# EAGLE library part BQ27500 (library oresat-batteries)
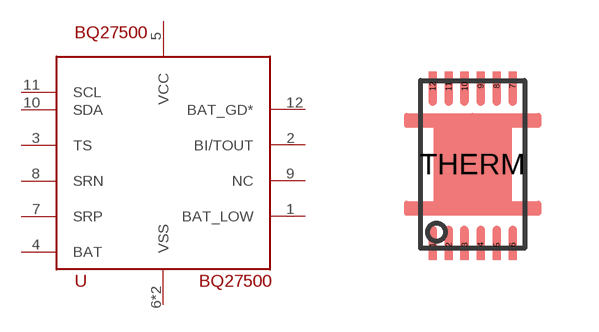
[diagram p6: symbol with the pads of S-PDSO-N12; footprint S-PDSO-N12]

Designator prefix -

## BQ27500  [S-PDSO-N12]
1  BAT_LOW
2  BI/TOUT
3  TS
4  BAT
5  VCC
6  VSS
7  SRP
8  SRN
9  NC
10  SDA
11  SCL
12  BAT_GD*
THERM  VSS

## Footprint S-PDSO-N12 (pad centres in mm)
smd 0.2 x 0.75: 1 -1,-2.02; 2 -0.6,-2.02; 3 -0.2,-2.02; 4 0.2,-2.02; 5 0.6,-2.02; 6 1,-2.02; 7 1,1.95; 8 0.6,1.95; 9 0.2,1.95; 10 -0.2,1.95; 11 -0.6,1.95; 12 -1,1.95
smd 1.95 x 1.95: THERM 0,0